# Altium footprint library AX7035_PCB_AD.PcbLib: 47 footprints (part 1 of 3)
Each footprint in its own frame and in the unit in brackets; x right, y up, seen from the top. Pads: shape width x height; smd on the part's side, far side on the other; paste and mask are expansions set on the pad; w line width, h text height; cw(c..) or ccw(c..) is an arc to the next point about the centre after c.
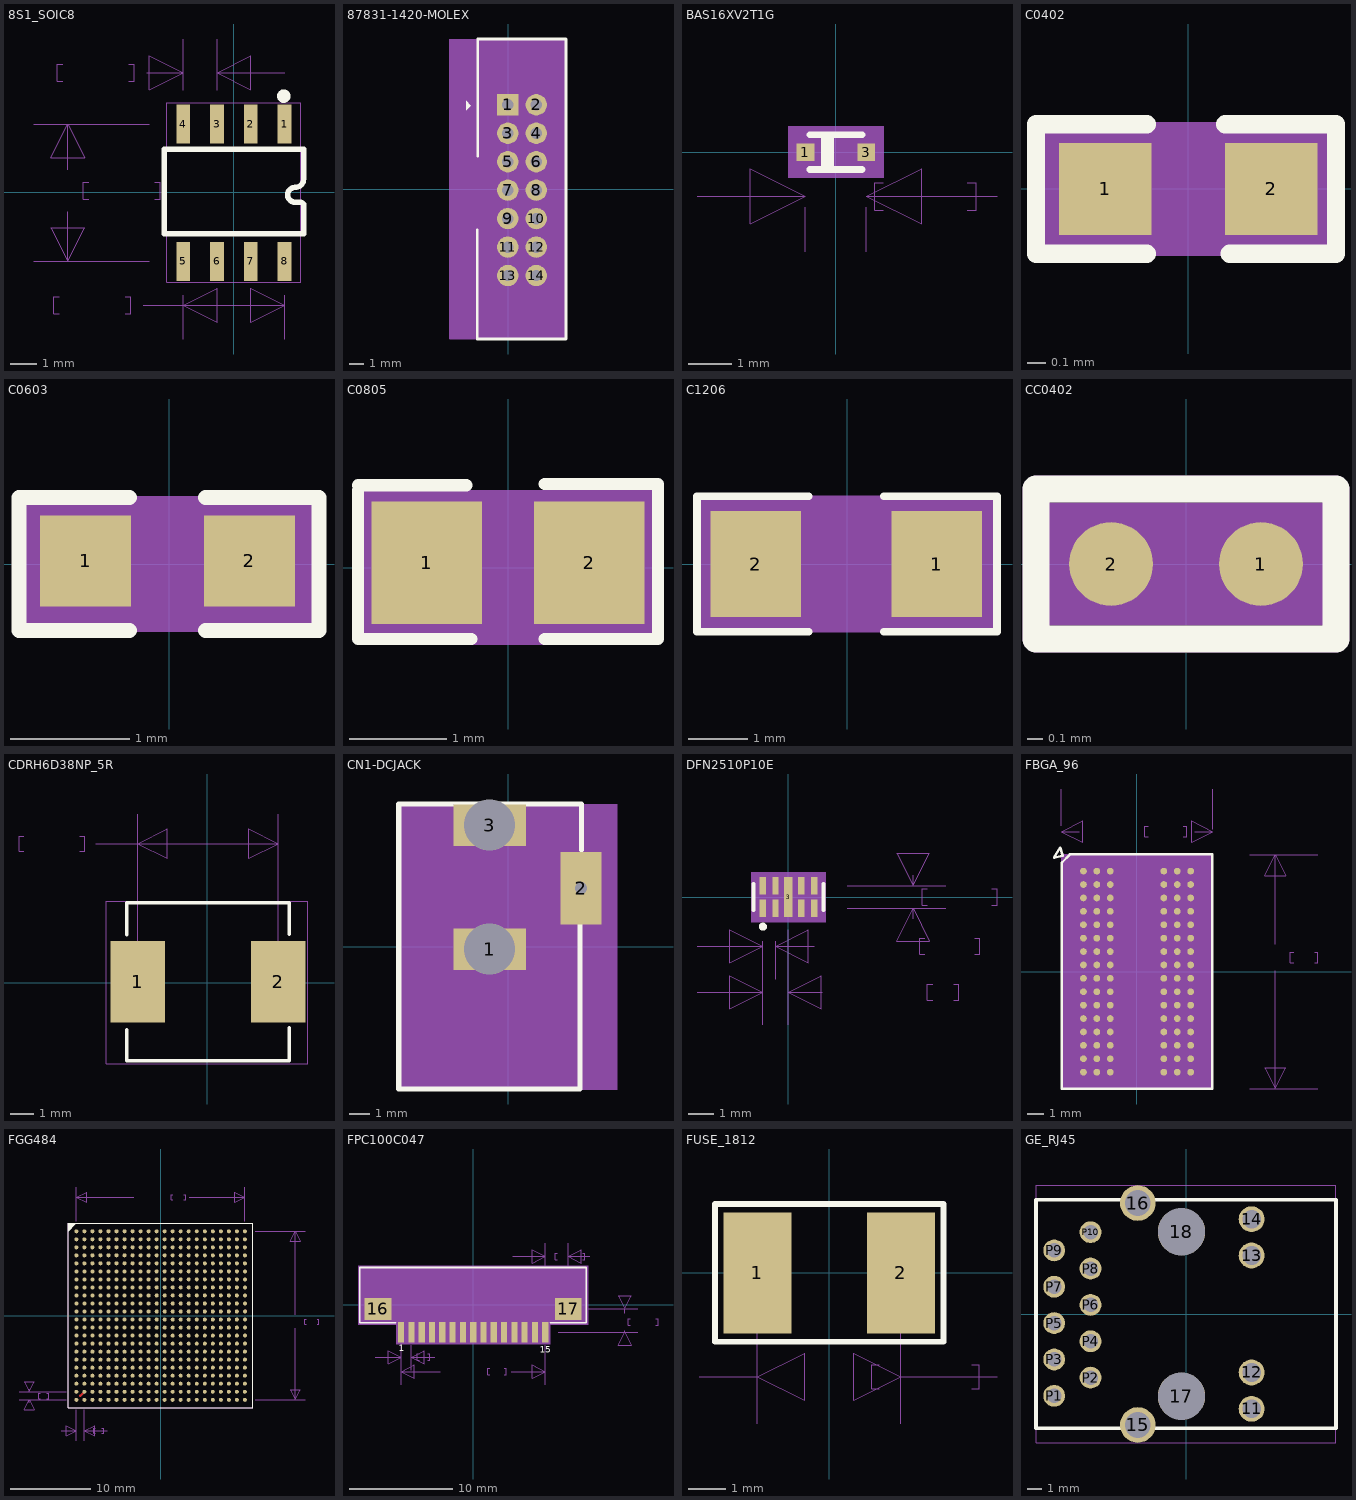
[diagram p0: the footprints below, top view; thin cyan lines are the x and y axes]

## 8S1_SOIC8 [mil] "8S1_SOIC8"
pads (8):
  rect 20.4x57.4 smd: 1(75.29,100.96) 2(25.29,100.96) 3(-24.71,100.96) 4(-74.71,100.96) 5(-74.71,-102.18) 6(-24.71,-102.18) 7(25.29,-102.18) 8(75.29,-102.18)
Top Overlay:
  circle w10: c73.99,142.37 r5.02
  lines w8: -102.69,-61.31 -102.69,63.57 103.36,63.57 103.36,19.86 cw(c90.88,19.86) 90.88,7.38 ccw(c90.88,-3.67) 90.88,-14.72 98.56,-14.72 cw(c98.56,-20) 103.84,-20 103.84,-25.77 103.84,-61.31 -102.69,-61.31
  text ".Designator" at 132.66,60 h25
Mechanical 8:
  text "1" at 75.29,110.96 h25
  text "2" at 25.29,110.96 h25
  text "3" at -24.71,110.96 h25
  text "4" at -74.71,110.96 h25
  text "6" at -24.71,-92.18 h25
  text "5" at -74.71,-92.18 h25
  text "7" at 25.29,-92.18 h25
  text "8" at 75.29,-92.18 h25
Mechanical 9:
  lines w1: -295.47,-102.18 -124.71,-102.18 ; -295.47,100.96 -124.71,100.96 ; -258.25,-179.33 -266.25,-179.33 -266.25,-154.33 -258.25,-154.33 ; -253.2,164.37 -261.2,164.37 -261.2,189.37 -253.2,189.37 ; -245.47,-28.78 -245.47,-102.18 ; -245.47,33.72 -245.47,100.96 ; -214.47,-10.03 -222.47,-10.03 -222.47,14.97 -214.47,14.97 ; -160.25,-179.33 -152.25,-179.33 -152.25,-154.33 -160.25,-154.33 ; -155.2,164.37 -147.2,164.37 -147.2,189.37 -155.2,189.37 ; -133.5,-166.83 -74.71,-166.83 ; -128.45,176.87 -74.71,176.87 ; -116.47,-10.03 -108.47,-10.03 -108.47,14.97 -116.47,14.97 ; -74.71,-216.83 -74.71,-152.18 ; -74.71,150.96 -74.71,226.87 ; -24.71,150.96 -24.71,226.87 ; 75.29,-216.83 75.29,-152.18 ; 75.29,176.87 -24.71,176.87 ; -245.47,-102.18 -220.47,-52.18 -270.47,-52.18 -245.47,-102.18 ; -245.47,100.96 -270.47,50.96 -220.47,50.96 -245.47,100.96 ; -74.71,-166.83 75.29,-166.83 ; -74.71,-166.83 -24.71,-191.83 -24.71,-141.83 -74.71,-166.83 ; -74.71,176.87 -124.71,201.87 -124.71,151.87 -74.71,176.87 ; -24.71,176.87 25.29,151.87 25.29,201.87 -24.71,176.87 ; 75.29,-166.83 25.29,-141.83 25.29,-191.83 75.29,-166.83
  text "5.16" at -206.47,-10.03 h25
  text "203.14" at -382.47,-10.03 h25
  text "3.81" at -250.25,-179.33 h25
  text "150.00" at -426.25,-179.33 h25
  text "1.27" at -245.2,164.37 h25
  text "50.00" at -399.2,164.37 h25
Mechanical 12:
  lines w1: -99.42,-132.79 99.41,-132.79 99.41,132.8 -99.42,132.8 -99.42,-132.79

## 87831-1420-MOLEX [mil] "87831-1420-MOLEX"
pads (14):
  rect 59.06x59.06 hole 31.5: 1(-0.5,233)
  round 59.06 hole 31.5: 2(78.24,233) 3(-0.5,154.26) 4(78.24,154.26) 5(-0.5,75.52) 6(78.24,75.52) 7(-0.5,-3.22) 8(78.24,-3.22) 9(-0.5,-81.96) 10(78.24,-81.96) 11(-0.5,-160.7) 12(78.24,-160.7) 13(-0.5,-239.44) 14(78.24,-239.44)
Top Overlay:
  pour cut-out: -115.5,244 -115.5,218 -102.5,231
  lines w7: -84.5,-113 -84.5,-415 160.5,-415 160.5,415 -83.5,415 -83.5,91
  text ".Designator" at -133.06,-346.11 h25
Mechanical 8:
  text "10" at 78.24,-61.96 h25
  text "4" at 78.24,164.26 h25
  text "8" at 78.24,6.78 h25
  text "6" at 78.24,85.52 h25
  text "2" at 78.24,243 h25
  text "1" at -0.5,243 h25
  text "13" at -0.5,-219.44 h25
  text "3" at -0.5,164.26 h25
  text "5" at -0.5,85.52 h25
  text "7" at -0.5,6.78 h25
  text "9" at -0.5,-71.96 h25
  text "11" at -0.5,-140.7 h25
  text "14" at 78.24,-219.44 h25
  text "12" at 78.24,-140.7 h25
Mechanical 12:
  region: -160.5,-415 160.5,-415 160.5,415 -160.5,415
Mechanical 13:
  lines w1: -160.5,-415 160.5,-415 160.5,415 -160.5,415 -160.5,-415
3D body: height 150, standoff 0, extent -160.5,-415 160.5,415

## BAS16XV2T1G [mil] "BAS16XV2T1G"
pads (2):
  rect 16x16 smd: 1(-27.56,0) 3(27.56,0)
Top Overlay:
  lines w6: -23.62,-15.75 23.62,-15.75 ; -23.62,15.75 23.62,15.75 ; -10.56,-15.75 -10.56,15.75 ; -4.56,-15.75 -4.56,15.75
Mechanical 8:
  text "3" at 17.56,0 h25
  text "1" at -37.56,0 h25
Mechanical 9:
  lines w1: -125.75,-40 -27.56,-40 ; -27.56,-90 -27.56,-50 ; 27.56,-90 27.56,-50 ; 43,-52.5 35,-52.5 35,-27.5 43,-27.5 ; 119,-52.5 127,-52.5 127,-27.5 119,-27.5 ; 145.75,-40 27.56,-40 ; -27.56,-40 -77.56,-15 -77.56,-65 -27.56,-40 ; 27.56,-40 77.56,-65 77.56,-15 27.56,-40
  text "55.12" at -105,-52.5 h25
  text "1.4" at 51,-52.5 h25
Mechanical 12:
  region: -43.06,-23.25 43.06,-23.25 43.06,23.25 -43.06,23.25
Mechanical 13:
  text ".Designator" at 0,0 h25
3D body: height 150, standoff 0, extent -43.06,-23.25 43.06,23.25

## C0402 [mil] "C0402"
pads (2):
  rect 20x20 smd: 1(-18,0) 2(18,0)
Top Overlay:
  lines w4: -9,-14 -33,-14 -33,14 -9,14 ; 8,14 32,14 32,-14 9,-14
  text ".Designator" at 37.5,-38.67 h25
Mechanical 8:
  text "2" at 18,-10 h25
  text "1" at -18,-10 h25
Mechanical 12:
  region: -32,-14 32,-14 32,14 -32,14
Mechanical 13:
  lines w1: -32,-14 -32,14 32,14 32,-14 -32,-14
3D body: height 150, standoff 0, extent -32,-14 32,14

## C0603 [mil] "C0603"
pads (2):
  rect 30x30 smd: 1(-27.5,1) 2(26.5,1)
Top Overlay:
  lines w5: -13,-22 -49.5,-22 -49.5,22 -13,22 ; 12,-22 49.5,-22 49.5,22 12,22
  text ".Designator" at 64.5,-7.33 h25
Mechanical 8:
  text "2" at 16.5,1 h25
  text "1" at -37.5,1 h25
Mechanical 12:
  region: -49.5,22 -49.5,-22 49.5,-22 49.5,22
Mechanical 13:
  lines w1: -49.5,-22 49.5,-22 49.5,22 -49.5,22 -49.5,-22
3D body: height 150, standoff 0, extent -49.5,-22 49.5,22

## C0805 [mil] "C0805"
pads (2):
  rect 45x50 smd: 1(-33,2) 2(33,2)
Top Overlay:
  lines w5: -61,-29 -15,-29 ; -61,-28.5 -61,31.5 ; -61,33.5 -17,33.5 ; 15,-29 61,-29 ; 15,34 61,34 61,-28
  text ".Designator" at 42.3,-46.78 h25
Mechanical 8:
  text "2" at 43,2 h25
  text "1" at -23,2 h25
Mechanical 12:
  region: -61,-31 61,-31 61,31 -61,31
Mechanical 13:
  lines w1: -61,-31 -61,31 61,31 61,-31 -61,-31
3D body: height 150, standoff 0, extent -61,-31 61,31

## C1206 [mil] "C1206"
pads (2):
  rect 60x70 smd: 1(59.5,0) 2(-60.5,0)
Top Overlay:
  lines w5: -25.5,-45 -99.5,-45 -99.5,45 -25.5,45 ; 24.5,-45 99.5,-45 99.5,45 24.5,45
  text ".Designator" at -117,18.33 h25
Mechanical 8:
  text "2" at -70.5,0 h25
  text "1" at 49.5,0 h25
Mechanical 10:
  region: 99.5,45 99.5,-45 -99.5,-45 -99.5,45
Mechanical 11:
  lines w1: -99.5,-45 -99.5,45 99.5,45 99.5,-45 -99.5,-45
3D body: height 150, standoff 0, extent -99.5,-45 99.5,45

## CC0402 [mil] "CC0402"
pads (2):
  round 22 smd: 1(19.68,0) 2(-19.68,0)
Top Overlay:
  lines w7: -39.37,-19.68 -39.37,19.68 39.37,19.68 39.37,-19.68 -39.37,-19.68
Mechanical 8:
  text "2" at 0.32,0 h25
  text "1" at 39.68,0 h25
Mechanical 10:
  region: -36,-16 36,-16 36,16 35,16 -36,16
Mechanical 11:
  lines w7: -39.37,-19.68 -39.37,19.68 39.37,19.68 39.37,-19.68 -39.37,-19.68
  text ".Designator" at 0.68,4 h25
3D body: height 150, standoff 0, extent -36,-16 36,16

## CDRH6D38NP_5R [mil] "CDRH6D38NP_5R"
pads (2):
  rect 92.5x137.8 smd: 1(-117.59,1.5) 2(120.59,1.5)
Top Overlay:
  lines w6: -136.3,-79.5 -136.3,-132.36 139.3,-132.36 139.3,-76.5 ; -136.3,81.5 -136.3,135.36 139.3,135.36 139.3,82.5
  text ".Designator" at -30.1,159.57 h25
Mechanical 8:
  text "1" at -127.59,1.5 h25
  text "2" at 110.59,1.5 h25
Mechanical 9:
  lines w1: -310.5,223 -318.5,223 -318.5,248 -310.5,248 ; -215.5,223 -207.5,223 -207.5,248 -215.5,248 ; -188.75,235.5 -117.59,235.5 ; -117.59,51.5 -117.59,285.5 ; 120.59,51.5 120.59,285.5 ; -117.59,235.5 120.59,235.5 ; -117.59,235.5 -67.59,210.5 -67.59,260.5 -117.59,235.5 ; 120.59,235.5 70.59,260.5 70.59,210.5 120.59,235.5
  text "6.05" at -302.5,223 h25
  text "238.19" at -475.5,223 h25
Mechanical 12:
  lines w1: -170.5,-137.5 -170.5,137.5 170.5,137.5 170.5,-137.5 -170.5,-137.5

## CN1-DCJACK [mil] "CN1-DCJACK"
pads (3):
  rect 140x80 hole 98.43: 1(-35.59,-5) 3(-35.59,235.16)
  rect 80x140 hole 23.62: 2(141.58,113)
Top Overlay:
  lines w10: 139.41,43 139.41,-276 -211.59,-276 -211.59,276 142.41,276 142.41,187
Mechanical 8:
  text "1" at -35.59,-15 h25
  text "2" at 141.58,103 h25
  text "3" at -35.59,225.16 h25
Mechanical 12:
  region: -211.59,-276 211.58,-276 211.58,276 -211.59,276
Mechanical 13:
  lines w1: -211.59,-276 -211.59,276 211.58,276 211.58,-276 -211.59,-276
  text ".Designator" at -52.59,108 h25
3D body: height 150, standoff 0, extent -211.59,-276 211.58,276

## DFN2510P10E [mm] "DFN2510P10E"
pads (9):
  rect 0.25x0.675 smd: 1(-1,-0.437) 2(-0.5,-0.437) 4(0.5,-0.437) 5(1,-0.437) 6(1,0.437) 7(0.5,0.437) 9(-0.5,0.437) 10(-1,0.437)
  rect 0.33x1.549 smd: 3(0,0)
Top Overlay:
  circle w0.152: c-0.991,-1.143 r0.08
  lines w0.152: -1.356,-0.5 -1.356,0.5 ; 1.356,-0.5 1.356,0.5
  text ".Designator" at -0.508,-1.964 h0.64
Mechanical 8:
  text "1" at -1,-0.183 h0.64
  text "10" at -1,0.945 h0.64
  text "2" at -0.5,-0.183 h0.64
  text "9" at -0.5,0.691 h0.64
  text "4" at 0.5,-0.183 h0.64
  text "7" at 0.5,0.691 h0.64
  text "5" at 1,-0.183 h0.64
  text "6" at 1,0.691 h0.64
  text "3" at 0,0.254 h0.64
Mechanical 9:
  lines w0.025: -3.54,-3.683 -1,-3.683 ; -3.54,-1.905 -1,-1.905 ; -1,-4.953 -1,-1.707 -1,-3.175 ; -0.5,-3.175 -0.5,-1.707 ; 0,-4.953 0,-1.27 ; 0.997,-1.905 -0.5,-1.905 ; 1.302,-3.683 0,-3.683 ; 2.27,-0.437 6.096,-0.437 ; 2.27,0.437 6.096,0.437 ; 4.826,-0.845 4.826,-0.437 ; 4.826,0.845 4.826,0.437 ; 5.283,-2.222 5.08,-2.222 5.08,-1.587 5.283,-1.587 ; 5.385,-0.318 5.182,-0.318 5.182,0.318 5.385,0.318 ; 5.588,-4 5.385,-4 5.385,-3.365 5.588,-3.365 ; 6.401,-4 6.604,-4 6.604,-3.365 6.401,-3.365 ; 7.214,-2.222 7.417,-2.222 7.417,-1.587 7.214,-1.587 ; 7.874,-0.318 8.077,-0.318 8.077,0.318 7.874,0.318 ; -1,-3.683 -2.27,-4.318 -2.27,-3.048 -1,-3.683 ; -1,-1.905 -2.27,-2.54 -2.27,-1.27 -1,-1.905 ; -0.5,-1.905 0.77,-1.27 0.77,-2.54 -0.5,-1.905 ; 0,-3.683 1.27,-3.048 1.27,-4.318 0,-3.683 ; 4.826,-0.437 5.461,-1.707 4.191,-1.707 4.826,-0.437 ; 4.826,0.437 4.191,1.707 5.461,1.707 4.826,0.437
  text "19.68" at 1.524,-2.222 h0.64
  text "0.5" at 5.486,-2.222 h0.64
  text "39.37" at 1.829,-4 h0.64
  text "1" at 5.791,-4 h0.64
  text "34.44" at 1.626,-0.318 h0.64
  text "0.87" at 5.588,-0.318 h0.64
Mechanical 12:
  region: -1.44,-0.965 1.44,-0.965 1.44,0.965 -1.44,0.965
3D body: height 3.81, standoff 0, extent -1.44,-0.965 1.44,0.965

## FBGA_96 [mil] "FBGA_96"
pads (96):
  round 15.75 smd: A1(-125.5,236.22) A2(-94,236.22) A3(-62.51,236.22) A7(63.48,236.22) A8(94.97,236.22) A9(126.47,236.22) B1(-125.5,204.72) B2(-94,204.72) B3(-62.51,204.72) B7(63.48,204.72) B8(94.97,204.72) B9(126.47,204.72) C1(-125.5,173.23) C2(-94,173.23) C3(-62.51,173.23) C7(63.48,173.23) C8(94.97,173.23) C9(126.47,173.23) D1(-125.5,141.73) D2(-94,141.73) D3(-62.51,141.73) D7(63.48,141.73) D8(94.97,141.73) D9(126.47,141.73) E1(-125.5,110.24) E2(-94,110.24) E3(-62.51,110.24) E7(63.48,110.24) E8(94.97,110.24) E9(126.47,110.24) F1(-125.5,78.74) F2(-94,78.74) F3(-62.51,78.74) F7(63.48,78.74) F8(94.97,78.74) F9(126.47,78.74) G1(-125.5,47.24) G2(-94,47.24) G3(-62.51,47.24) G7(63.48,47.24) G8(94.97,47.24) G9(126.47,47.24) H1(-125.5,15.75) H2(-94,15.75) H3(-62.51,15.75) H7(63.48,15.75) H8(94.97,15.75) H9(126.47,15.75) J1(-125.5,-15.75) J2(-94,-15.75) J3(-62.51,-15.75) J7(63.48,-15.75) J8(94.97,-15.75) J9(126.47,-15.75) K1(-125.5,-47.24) K2(-94,-47.24) K3(-62.51,-47.24) K7(63.48,-47.24) K8(94.97,-47.24) K9(126.47,-47.24) L1(-125.5,-78.74) L2(-94,-78.74) L3(-62.51,-78.74) L7(63.48,-78.74) L8(94.97,-78.74) L9(126.47,-78.74) M1(-125.5,-110.24) M2(-94,-110.24) M3(-62.51,-110.24) M7(63.48,-110.24) M8(94.97,-110.24) M9(126.47,-110.24) N1(-125.5,-141.73) N2(-94,-141.73) N3(-62.51,-141.73) N7(63.48,-141.73) N8(94.97,-141.73) N9(126.47,-141.73) P1(-125.5,-173.23) P2(-94,-173.23) P3(-62.51,-173.23) P7(63.48,-173.23) P8(94.97,-173.23) P9(126.47,-173.23) R1(-125.5,-204.72) R2(-94,-204.72) R3(-62.51,-204.72) R7(63.48,-204.72) R8(94.97,-204.72) R9(126.47,-204.72) T1(-125.5,-236.22) T2(-94,-236.22) T3(-62.51,-236.22) T7(63.48,-236.22) T8(94.97,-236.22) T9(126.47,-236.22)
Top Overlay:
  lines w5: -175.37,257.22 -158.43,274.15
  lines w6: -176.68,256.22 -176.68,-275.59 177.65,-275.59 177.65,275.59 -157.5,275.59 ; -194.5,268.22 -180.5,291.22 -174.5,272.22 -194.5,268.22
  text ".Designator" at 223.33,59.5 h25
Mechanical 8:
  text "G2" at -94,27.24 h25
  text "F8" at 94.97,58.74 h25
  text "A7" at 63.48,216.22 h25
  text "C3" at -62.51,153.23 h25
  text "F2" at -94,58.74 h25
  text "G3" at -62.51,27.24 h25
  text "H3" at -62.51,-4.25 h25
  text "T7" at 63.48,-256.22 h25
  text "L8" at 94.97,-98.74 h25
  text "D7" at 63.48,121.73 h25
  text "E3" at -62.51,90.24 h25
  text "F7" at 63.48,58.74 h25
  text "C2" at -94,153.23 h25
  text "E7" at 63.48,90.24 h25
  text "C7" at 63.48,153.23 h25
  text "M8" at 94.97,-130.24 h25
  text "H1" at -125.5,-4.25 h25
  text "D3" at -62.51,121.73 h25
  text "R9" at 126.47,-224.72 h25
  text "K8" at 94.97,-67.24 h25
  text "N9" at 126.47,-161.73 h25
  text "H9" at 126.47,-4.25 h25
  text "E9" at 126.47,90.24 h25
  text "D9" at 126.47,121.73 h25
  text "C9" at 126.47,153.23 h25
  text "G7" at 63.48,27.24 h25
  text "A8" at 94.97,216.22 h25
  text "R1" at -125.5,-224.72 h25
  text "K2" at -94,-67.24 h25
  text "N1" at -125.5,-161.73 h25
  text "F1" at -125.5,58.74 h25
  text "A1" at -125.5,216.22 h25
  text "C1" at -125.5,153.23 h25
  text "B2" at -94,184.72 h25
  text "D2" at -94,121.73 h25
  text "H2" at -94,-4.25 h25
  text "A2" at -94,216.22 h25
  text "H8" at 94.97,-4.25 h25
  text "C8" at 94.97,153.23 h25
  text "T2" at -94,-256.22 h25
  text "J7" at 63.48,-35.75 h25
  text "B8" at 94.97,184.72 h25
  text "K7" at 63.48,-67.24 h25
  text "A3" at -62.51,216.22 h25
  text "H7" at 63.48,-4.25 h25
  text "B7" at 63.48,184.72 h25
  text "F3" at -62.51,58.74 h25
  text "J1" at -125.5,-35.75 h25
  text "J9" at 126.47,-35.75 h25
  text "L1" at -125.5,-98.74 h25
  text "L9" at 126.47,-98.74 h25
  text "M7" at 63.48,-130.24 h25
  text "K1" at -125.5,-67.24 h25
  text "K3" at -62.51,-67.24 h25
  text "M2" at -94,-130.24 h25
  text "M3" at -62.51,-130.24 h25
  text "L3" at -62.51,-98.74 h25
  text "L2" at -94,-98.74 h25
  text "J3" at -62.51,-35.75 h25
  text "N7" at 63.48,-161.73 h25
  text "K9" at 126.47,-67.24 h25
  text "R3" at -62.51,-224.72 h25
  text "P7" at 63.48,-193.23 h25
  text "L7" at 63.48,-98.74 h25
  text "R2" at -94,-224.72 h25
  text "T3" at -62.51,-256.22 h25
  text "P3" at -62.51,-193.23 h25
  text "T8" at 94.97,-256.22 h25
  text "R7" at 63.48,-224.72 h25
  text "P2" at -94,-193.23 h25
  text "R8" at 94.97,-224.72 h25
  text "N2" at -94,-161.73 h25
  text "P8" at 94.97,-193.23 h25
  text "N3" at -62.51,-161.73 h25
  text "N8" at 94.97,-161.73 h25
  text "T9" at 126.47,-256.22 h25
  text "P9" at 126.47,-193.23 h25
  text "M9" at 126.47,-130.24 h25
  text "J8" at 94.97,-35.75 h25
  text "E8" at 94.97,90.24 h25
  text "F9" at 126.47,58.74 h25
  text "G9" at 126.47,27.24 h25
  text "G8" at 94.97,27.24 h25
  text "D8" at 94.97,121.73 h25
  text "B9" at 126.47,184.72 h25
  text "A9" at 126.47,216.22 h25
  text "B3" at -62.51,184.72 h25
  text "T1" at -125.5,-256.22 h25
  text "P1" at -125.5,-193.23 h25
  text "M1" at -125.5,-130.24 h25
  text "J2" at -94,-35.75 h25
  text "G1" at -125.5,27.24 h25
  text "E2" at -94,90.24 h25
  text "E1" at -125.5,90.24 h25
  text "D1" at -125.5,121.73 h25
  text "B1" at -125.5,184.72 h25
Mechanical 9:
  lines w1: -177.5,343.22 -177.5,429.22 ; -135.25,329.22 -177.5,329.22 ; 26.5,316.72 18.5,316.72 18.5,341.72 26.5,341.72 ; 109.5,316.72 117.5,316.72 117.5,341.72 109.5,341.72 ; 136.25,329.22 178.5,329.22 ; 178.5,334.22 178.5,429.22 ; 265.5,-275.78 425.5,-275.78 ; 265.5,275.22 425.5,275.22 ; 325.5,1.97 325.5,-275.78 ; 325.5,64.47 325.5,275.22 ; 368.5,20.72 360.5,20.72 360.5,45.72 368.5,45.72 ; 417.5,20.72 425.5,20.72 425.5,45.72 417.5,45.72 ; -177.5,329.22 -127.5,354.22 -127.5,304.22 -177.5,329.22 ; 178.5,329.22 128.5,304.22 128.5,354.22 178.5,329.22 ; 325.5,-275.78 300.5,-225.78 350.5,-225.78 325.5,-275.78 ; 325.5,275.22 350.5,225.22 300.5,225.22 325.5,275.22
  text "356.00" at -116.5,316.72 h25
  text "9.04" at 34.5,316.72 h25
  text "551.00" at 225.5,20.72 h25
  text "14" at 376.5,20.72 h25
Mechanical 12:
  region: -177.5,275.59 -177.5,-275.59 177.5,-275.59 177.5,275.59
3D body: height 150, standoff 0, extent -177.5,-275.59 177.5,275.59

## FGG484 [mil] "FGG484"
pads (484):
  round 19.68 smd: A1(-413.39,413.39) A2(-374.02,413.39) A3(-334.65,413.39) A4(-295.28,413.39) A5(-255.91,413.39) A6(-216.54,413.39) A7(-177.17,413.39) A8(-137.8,413.39) A9(-98.43,413.39) A10(-59.06,413.39) A11(-19.69,413.39) A12(19.69,413.39) A13(59.06,413.39) A14(98.43,413.39) A15(137.8,413.39) A16(177.17,413.39) A17(216.54,413.39) A18(255.91,413.39) A19(295.28,413.39) A20(334.65,413.39) A21(374.02,413.39) A22(413.39,413.39) AA1(-413.39,-374.02) AA2(-374.02,-374.02) AA3(-334.65,-374.02) AA4(-295.28,-374.02) AA5(-255.91,-374.02) AA6(-216.54,-374.02) AA7(-177.17,-374.02) AA8(-137.8,-374.02) AA9(-98.43,-374.02) AA10(-59.06,-374.02) AA11(-19.69,-374.02) AA12(19.69,-374.02) AA13(59.06,-374.02) AA14(98.43,-374.02) AA15(137.8,-374.02) AA16(177.17,-374.02) AA17(216.54,-374.02) AA18(255.91,-374.02) AA19(295.28,-374.02) AA20(334.65,-374.02) AA21(374.02,-374.02) AA22(413.39,-374.02) AB1(-413.39,-413.39) AB2(-374.02,-413.39) AB3(-334.65,-413.39) AB4(-295.28,-413.39) AB5(-255.91,-413.39) AB6(-216.54,-413.39) AB7(-177.17,-413.39) AB8(-137.8,-413.39) AB9(-98.43,-413.39) AB10(-59.06,-413.39) AB11(-19.69,-413.39) AB12(19.69,-413.39) AB13(59.06,-413.39) AB14(98.43,-413.39) AB15(137.8,-413.39) AB16(177.17,-413.39) AB17(216.54,-413.39) AB18(255.91,-413.39) AB19(295.28,-413.39) AB20(334.65,-413.39) AB21(374.02,-413.39) AB22(413.39,-413.39) B1(-413.39,374.02) B2(-374.02,374.02) B3(-334.65,374.02) B4(-295.28,374.02) B5(-255.91,374.02) B6(-216.54,374.02) B7(-177.17,374.02) B8(-137.8,374.02) B9(-98.43,374.02) B10(-59.06,374.02) B11(-19.69,374.02) B12(19.69,374.02) B13(59.06,374.02) B14(98.43,374.02) B15(137.8,374.02) B16(177.17,374.02) B17(216.54,374.02) B18(255.91,374.02) B19(295.28,374.02) B20(334.65,374.02) B21(374.02,374.02) B22(413.39,374.02) C1(-413.39,334.65) C2(-374.02,334.65) C3(-334.65,334.65) C4(-295.28,334.65) C5(-255.91,334.65) C6(-216.54,334.65) C7(-177.17,334.65) C8(-137.8,334.65) C9(-98.43,334.65) C10(-59.06,334.65) C11(-19.69,334.65) C12(19.69,334.65) C13(59.06,334.65) C14(98.43,334.65) C15(137.8,334.65) C16(177.17,334.65) C17(216.54,334.65) C18(255.91,334.65) C19(295.28,334.65) C20(334.65,334.65) C21(374.02,334.65) C22(413.39,334.65) D1(-413.39,295.28) D2(-374.02,295.28) D3(-334.65,295.28) D4(-295.28,295.28) D5(-255.91,295.28) D6(-216.54,295.28) D7(-177.17,295.28) D8(-137.8,295.28) D9(-98.43,295.28) D10(-59.06,295.28) D11(-19.69,295.28) D12(19.69,295.28) D13(59.06,295.28) D14(98.43,295.28) D15(137.8,295.28) D16(177.17,295.28) D17(216.54,295.28) D18(255.91,295.28) D19(295.28,295.28) D20(334.65,295.28) D21(374.02,295.28) D22(413.39,295.28) E1(-413.39,255.91) E2(-374.02,255.91) E3(-334.65,255.91) E4(-295.28,255.91) E5(-255.91,255.91) E6(-216.54,255.91) E7(-177.17,255.91) E8(-137.8,255.91) E9(-98.43,255.91) E10(-59.06,255.91) E11(-19.69,255.91) E12(19.69,255.91) E13(59.06,255.91) E14(98.43,255.91) E15(137.8,255.91) E16(177.17,255.91) E17(216.54,255.91) E18(255.91,255.91) E19(295.28,255.91) E20(334.65,255.91) E21(374.02,255.91) E22(413.39,255.91) F1(-413.39,216.54) F2(-374.02,216.54) F3(-334.65,216.54) F4(-295.28,216.54) F5(-255.91,216.54) F6(-216.54,216.54) F7(-177.17,216.54) F8(-137.8,216.54) F9(-98.43,216.54) F10(-59.06,216.54) F11(-19.69,216.54) F12(19.69,216.54) F13(59.06,216.54) F14(98.43,216.54) F15(137.8,216.54) F16(177.17,216.54) F17(216.54,216.54) F18(255.91,216.54) F19(295.28,216.54) F20(334.65,216.54) F21(374.02,216.54) F22(413.39,216.54) G1(-413.39,177.17) G2(-374.02,177.17) G3(-334.65,177.17) G4(-295.28,177.17) G5(-255.91,177.17) G6(-216.54,177.17) G7(-177.17,177.17) G8(-137.8,177.17) G9(-98.43,177.17) G10(-59.06,177.17) G11(-19.69,177.17) G12(19.69,177.17) G13(59.06,177.17) G14(98.43,177.17) G15(137.8,177.17) G16(177.17,177.17) G17(216.54,177.17) G18(255.91,177.17) G19(295.28,177.17) G20(334.65,177.17) G21(374.02,177.17) G22(413.39,177.17) H1(-413.39,137.8) H2(-374.02,137.8) H3(-334.65,137.8) H4(-295.28,137.8) H5(-255.91,137.8) H6(-216.54,137.8) H7(-177.17,137.8) H8(-137.8,137.8) H9(-98.43,137.8) H10(-59.06,137.8) H11(-19.69,137.8) H12(19.69,137.8) H13(59.06,137.8) H14(98.43,137.8) H15(137.8,137.8) H16(177.17,137.8) H17(216.54,137.8) H18(255.91,137.8) H19(295.28,137.8) H20(334.65,137.8) H21(374.02,137.8) H22(413.39,137.8) J1(-413.39,98.43) J2(-374.02,98.43) J3(-334.65,98.43) J4(-295.28,98.43) J5(-255.91,98.43) J6(-216.54,98.43) J7(-177.17,98.43) J8(-137.8,98.43) J9(-98.43,98.43) J10(-59.06,98.43) J11(-19.69,98.43) J12(19.69,98.43) J13(59.06,98.43) J14(98.43,98.43) J15(137.8,98.43) J16(177.17,98.43) J17(216.54,98.43) J18(255.91,98.43) J19(295.28,98.43) J20(334.65,98.43) J21(374.02,98.43) J22(413.39,98.43) K1(-413.39,59.06) K2(-374.02,59.06) K3(-334.65,59.06) K4(-295.28,59.06) K5(-255.91,59.06) K6(-216.54,59.06) K7(-177.17,59.06) K8(-137.8,59.06) K9(-98.43,59.06) K10(-59.06,59.06) K11(-19.69,59.06) K12(19.69,59.06) K13(59.06,59.06) K14(98.43,59.06) K15(137.8,59.06) K16(177.17,59.06) K17(216.54,59.06) K18(255.91,59.06) K19(295.28,59.06) K20(334.65,59.06) K21(374.02,59.06) K22(413.39,59.06) L1(-413.39,19.69) L2(-374.02,19.69) L3(-334.65,19.69) L4(-295.28,19.69) L5(-255.91,19.69) L6(-216.54,19.69) L7(-177.17,19.69) L8(-137.8,19.69) L9(-98.43,19.69) L10(-59.06,19.69) L11(-19.69,19.69) L12(19.69,19.69) L13(59.06,19.69) L14(98.43,19.69) L15(137.8,19.69) L16(177.17,19.69) L17(216.54,19.69) L18(255.91,19.69) L19(295.28,19.69) L20(334.65,19.69) L21(374.02,19.69) L22(413.39,19.69) M1(-413.39,-19.69) M2(-374.02,-19.69) M3(-334.65,-19.69) M4(-295.28,-19.69) M5(-255.91,-19.69) M6(-216.54,-19.69) M7(-177.17,-19.69) M8(-137.8,-19.69) M9(-98.43,-19.69) M10(-59.06,-19.69) M11(-19.69,-19.69) M12(19.69,-19.69) M13(59.06,-19.69) M14(98.43,-19.69) M15(137.8,-19.69) M16(177.17,-19.69) M17(216.54,-19.69) M18(255.91,-19.69) M19(295.28,-19.69) M20(334.65,-19.69) M21(374.02,-19.69) M22(413.39,-19.69) N1(-413.39,-59.06) N2(-374.02,-59.06) N3(-334.65,-59.06) N4(-295.28,-59.06) N5(-255.91,-59.06) N6(-216.54,-59.06) N7(-177.17,-59.06) N8(-137.8,-59.06) N9(-98.43,-59.06) N10(-59.06,-59.06) N11(-19.69,-59.06) N12(19.69,-59.06) N13(59.06,-59.06) N14(98.43,-59.06) N15(137.8,-59.06) N16(177.17,-59.06) N17(216.54,-59.06) N18(255.91,-59.06) N19(295.28,-59.06) N20(334.65,-59.06) N21(374.02,-59.06) N22(413.39,-59.06) P1(-413.39,-98.43) P2(-374.02,-98.43) P3(-334.65,-98.43) P4(-295.28,-98.43) P5(-255.91,-98.43) P6(-216.54,-98.43) P7(-177.17,-98.43) P8(-137.8,-98.43) P9(-98.43,-98.43) P10(-59.06,-98.43) P11(-19.69,-98.43) P12(19.69,-98.43) P13(59.06,-98.43) P14(98.43,-98.43) P15(137.8,-98.43) P16(177.17,-98.43) P17(216.54,-98.43) P18(255.91,-98.43) P19(295.28,-98.43) P20(334.65,-98.43) P21(374.02,-98.43) P22(413.39,-98.43) R1(-413.39,-137.8) R2(-374.02,-137.8) R3(-334.65,-137.8) R4(-295.28,-137.8) R5(-255.91,-137.8) R6(-216.54,-137.8) R7(-177.17,-137.8) R8(-137.8,-137.8) R9(-98.43,-137.8) R10(-59.06,-137.8) R11(-19.69,-137.8) R12(19.69,-137.8) R13(59.06,-137.8) R14(98.43,-137.8) R15(137.8,-137.8) R16(177.17,-137.8) R17(216.54,-137.8) R18(255.91,-137.8) R19(295.28,-137.8) R20(334.65,-137.8) R21(374.02,-137.8) R22(413.39,-137.8) T1(-413.39,-177.17) T2(-374.02,-177.17) T3(-334.65,-177.17) T4(-295.28,-177.17) T5(-255.91,-177.17) T6(-216.54,-177.17) T7(-177.17,-177.17) T8(-137.8,-177.17) T9(-98.43,-177.17) T10(-59.06,-177.17) T11(-19.69,-177.17) T12(19.69,-177.17) T13(59.06,-177.17) T14(98.43,-177.17) T15(137.8,-177.17) T16(177.17,-177.17) T17(216.54,-177.17) T18(255.91,-177.17) T19(295.28,-177.17) T20(334.65,-177.17) T21(374.02,-177.17) T22(413.39,-177.17) U1(-413.39,-216.54) U2(-374.02,-216.54) U3(-334.65,-216.54) U4(-295.28,-216.54) U5(-255.91,-216.54) U6(-216.54,-216.54) U7(-177.17,-216.54) U8(-137.8,-216.54) U9(-98.43,-216.54) U10(-59.06,-216.54) U11(-19.69,-216.54) U12(19.69,-216.54) U13(59.06,-216.54) U14(98.43,-216.54) U15(137.8,-216.54) U16(177.17,-216.54) U17(216.54,-216.54) U18(255.91,-216.54) U19(295.28,-216.54) U20(334.65,-216.54) U21(374.02,-216.54) U22(413.39,-216.54) V1(-413.39,-255.91) V2(-374.02,-255.91) V3(-334.65,-255.91) V4(-295.28,-255.91) V5(-255.91,-255.91) V6(-216.54,-255.91) V7(-177.17,-255.91) V8(-137.8,-255.91) V9(-98.43,-255.91) V10(-59.06,-255.91) V11(-19.69,-255.91) V12(19.69,-255.91) V13(59.06,-255.91) V14(98.43,-255.91) V15(137.8,-255.91) V16(177.17,-255.91) V17(216.54,-255.91) V18(255.91,-255.91) V19(295.28,-255.91) V20(334.65,-255.91) V21(374.02,-255.91) V22(413.39,-255.91) W1(-413.39,-295.28) W2(-374.02,-295.28) W3(-334.65,-295.28) W4(-295.28,-295.28) W5(-255.91,-295.28) W6(-216.54,-295.28) W7(-177.17,-295.28) W8(-137.8,-295.28) W9(-98.43,-295.28) W10(-59.06,-295.28) W11(-19.69,-295.28) W12(19.69,-295.28) W13(59.06,-295.28) W14(98.43,-295.28) W15(137.8,-295.28) W16(177.17,-295.28) W17(216.54,-295.28) W18(255.91,-295.28) W19(295.28,-295.28) W20(334.65,-295.28) W21(374.02,-295.28) W22(413.39,-295.28) Y1(-413.39,-334.65) Y2(-374.02,-334.65) Y3(-334.65,-334.65) Y4(-295.28,-334.65) Y5(-255.91,-334.65) Y6(-216.54,-334.65) Y7(-177.17,-334.65) Y8(-137.8,-334.65) Y9(-98.43,-334.65) Y10(-59.06,-334.65) Y11(-19.69,-334.65) Y12(19.69,-334.65) Y13(59.06,-334.65) Y14(98.43,-334.65) Y15(137.8,-334.65) Y16(177.17,-334.65) Y17(216.54,-334.65) Y18(255.91,-334.65) Y19(295.28,-334.65) Y20(334.65,-334.65) Y21(374.02,-334.65) Y22(413.39,-334.65)
Top Layer:
  lines w12: -393.71,-393.7 -374.02,-374.02 ; 413.39,19.69 416.7,23 ; 59.06,98.43 59.06,98.44 ; 59.06,295.28 59.06,295.29 ; 216.54,216.54 216.54,216.55
Top Overlay:
  lines w6: -421,451 -452,416 -419,450 -452,418 -426,452 -452,426 -433,452 -451,429 -452,436 ; -452,436 -445,452 -452,443 -438,451 -452,436 ; -452.76,-452.76 452.76,-452.76 452.76,452.76 -452.76,452.76 -452.76,-452.76
  text ".Designator" at 29.5,-495.67 h25
Mechanical 8:
  text "F4" at -275.28,216.54 h25
  text "N20" at 364.65,-59.06 h25
  text "M18" at 285.91,-19.69 h25
  text "L3" at -314.65,19.69 h25
  text "E3" at -314.65,255.91 h25
  text "J2" at -354.02,98.43 h25
  text "C2" at -354.02,334.65 h25
  text "E2" at -354.02,255.91 h25
  text "D2" at -354.02,295.28 h25
  text "B2" at -354.02,374.02 h25
  text "H13" at 89.06,137.8 h25
  text "H14" at 128.43,137.8 h25
  text "M17" at 246.54,-19.69 h25
  text "M3" at -314.65,-19.69 h25
  text "K6" at -196.54,59.06 h25
  text "G4" at -275.28,177.17 h25
  text "M16" at 207.17,-19.69 h25
  text "M22" at 443.39,-19.69 h25
  text "N22" at 443.39,-59.06 h25
  text "M2" at -354.02,-19.69 h25
  text "H5" at -235.91,137.8 h25
  text "J5" at -235.91,98.43 h25
  text "K3" at -314.65,59.06 h25
  text "J6" at -196.54,98.43 h25
  text "L4" at -275.28,19.69 h25
  text "L5" at -235.91,19.69 h25
  text "N4" at -275.28,-59.06 h25
  text "H4" at -275.28,137.8 h25
  text "G13" at 89.06,177.17 h25
  text "J14" at 128.43,98.43 h25
  text "F3" at -314.65,216.54 h25
  text "B1" at -393.39,374.02 h25
  text "H3" at -314.65,137.8 h25
  text "G3" at -314.65,177.17 h25
  text "A1" at -393.39,413.39 h25
  text "K2" at -354.02,59.06 h25
  text "T20" at 364.65,-177.17 h25
  text "L16" at 207.17,19.69 h25
  text "J16" at 207.17,98.43 h25
  text "F20" at 364.65,216.54 h25
  text "G21" at 404.02,177.17 h25
  text "G22" at 443.39,177.17 h25
  text "D21" at 404.02,295.28 h25
  text "E22" at 443.39,255.91 h25
  text "D22" at 443.39,295.28 h25
  text "B21" at 404.02,374.02 h25
  text "A21" at 404.02,413.39 h25
  text "C22" at 443.39,334.65 h25
  text "B22" at 443.39,374.02 h25
  text "Y19" at 325.28,-334.65 h25
  text "R21" at 404.02,-137.8 h25
  text "P21" at 404.02,-98.43 h25
  text "R22" at 443.39,-137.8 h25
  text "P22" at 443.39,-98.43 h25
  text "P5" at -235.91,-98.43 h25
  text "AB5" at -225.91,-413.39 h25
  text "J22" at 443.39,98.43 h25
  text "AA1" at -383.39,-374.02 h25
  text "G20" at 364.65,177.17 h25
  text "T1" at -393.39,-177.17 h25
  text "D1" at -393.39,295.28 h25
  text "E1" at -393.39,255.91 h25
  text "F1" at -393.39,216.54 h25
  text "G1" at -393.39,177.17 h25
  text "E12" at 49.69,255.91 h25
  text "K12" at 49.69,59.06 h25
  text "H12" at 49.69,137.8 h25
  text "M12" at 49.69,-19.69 h25
  text "P12" at 49.69,-98.43 h25
  text "R11" at 10.31,-137.8 h25
  text "G2" at -354.02,177.17 h25
  text "Y1" at -393.39,-334.65 h25
  text "H22" at 443.39,137.8 h25
  text "AB3" at -304.65,-413.39 h25
  text "J1" at -393.39,98.43 h25
  text "K1" at -393.39,59.06 h25
  text "AA3" at -304.65,-374.02 h25
  text "U12" at 49.69,-216.54 h25
  text "AA5" at -225.91,-374.02 h25
  text "C1" at -393.39,334.65 h25
  text "G19" at 325.28,177.17 h25
  text "K20" at 364.65,59.06 h25
  text "H16" at 207.17,137.8 h25
  text "N21" at 404.02,-59.06 h25
  text "L17" at 246.54,19.69 h25
  text "M14" at 128.43,-19.69 h25
  text "T22" at 443.39,-177.17 h25
  text "U19" at 325.28,-216.54 h25
  text "P18" at 285.91,-98.43 h25
  text "V16" at 207.17,-255.91 h25
  text "R15" at 167.8,-137.8 h25
  text "Y20" at 364.65,-334.65 h25
  text "AA17" at 256.54,-374.02 h25
  text "W13" at 89.06,-295.28 h25
  text "F12" at 49.69,216.54 h25
  text "F2" at -354.02,216.54 h25
  text "J13" at 89.06,98.43 h25
  text "H6" at -196.54,137.8 h25
  text "J3" at -314.65,98.43 h25
  text "M4" at -275.28,-19.69 h25
  text "N1" at -393.39,-59.06 h25
  text "T12" at 49.69,-177.17 h25
  text "U8" at -117.8,-216.54 h25
  text "Y10" at -29.06,-334.65 h25
  text "AB14" at 138.43,-413.39 h25
  text "V2" at -354.02,-255.91 h25
  text "N12" at 49.69,-59.06 h25
  text "V4" at -275.28,-255.91 h25
  text "G16" at 207.17,177.17 h25
  text "AB2" at -344.02,-413.39 h25
  text "Y2" at -354.02,-334.65 h25
  text "N13" at 89.06,-59.06 h25
  text "AB1" at -383.39,-413.39 h25
  text "R3" at -314.65,-137.8 h25
  text "W2" at -354.02,-295.28 h25
  text "G15" at 167.8,177.17 h25
  text "N14" at 128.43,-59.06 h25
  text "R16" at 207.17,-137.8 h25
  text "P16" at 207.17,-98.43 h25
  text "R17" at 246.54,-137.8 h25
  text "R19" at 325.28,-137.8 h25
  text "P19" at 325.28,-98.43 h25
  text "L6" at -196.54,19.69 h25
  text "N5" at -235.91,-59.06 h25
  text "P6" at -196.54,-98.43 h25
  text "M5" at -235.91,-19.69 h25
  text "J4" at -275.28,98.43 h25
  text "K4" at -275.28,59.06 h25
  text "L1" at -393.39,19.69 h25
  text "M1" at -393.39,-19.69 h25
  text "N2" at -354.02,-59.06 h25
  text "P2" at -354.02,-98.43 h25
  text "P1" at -393.39,-98.43 h25
  text "R1" at -393.39,-137.8 h25
  text "L15" at 167.8,19.69 h25
  text "K16" at 207.17,59.06 h25
  text "H15" at 167.8,137.8 h25
  text "H17" at 246.54,137.8 h25
  text "L21" at 404.02,19.69 h25
  text "G18" at 285.91,177.17 h25
  text "H19" at 325.28,137.8 h25
  text "G17" at 246.54,177.17 h25
  text "L18" at 285.91,19.69 h25
  text "J21" at 404.02,98.43 h25
  text "L19" at 325.28,19.69 h25
  text "J17" at 246.54,98.43 h25
  text "R5" at -235.91,-137.8 h25
  text "T2" at -354.02,-177.17 h25
  text "AA7" at -147.17,-374.02 h25
  text "V6" at -196.54,-255.91 h25
  text "W3" at -314.65,-295.28 h25
  text "AB4" at -265.28,-413.39 h25
  text "K17" at 246.54,59.06 h25
  text "M21" at 404.02,-19.69 h25
  text "L14" at 128.43,19.69 h25
  text "M15" at 167.8,-19.69 h25
  text "K18" at 285.91,59.06 h25
  text "K19" at 325.28,59.06 h25
  text "L20" at 364.65,19.69 h25
  text "J20" at 364.65,98.43 h25
  text "M20" at 364.65,-19.69 h25
  text "Y18" at 285.91,-334.65 h25
  text "L12" at 49.69,19.69 h25
  text "C21" at 404.02,334.65 h25
  text "A17" at 246.54,413.39 h25
  text "B14" at 128.43,374.02 h25
  text "D18" at 285.91,295.28 h25
  text "E15" at 167.8,255.91 h25
  text "F22" at 443.39,216.54 h25
  text "H8" at -117.8,137.8 h25
  text "J9" at -78.43,98.43 h25
  text "L7" at -157.17,19.69 h25
  text "K8" at -117.8,59.06 h25
  text "N11" at 10.31,-59.06 h25
  text "N7" at -157.17,-59.06 h25
  text "M8" at -117.8,-19.69 h25
  text "T10" at -29.06,-177.17 h25
  text "R9" at -78.43,-137.8 h25
  text "T8" at -117.8,-177.17 h25
  text "P10" at -29.06,-98.43 h25
  text "P8" at -117.8,-98.43 h25
  text "R7" at -157.17,-137.8 h25
  text "H10" at -29.06,137.8 h25
  text "J11" at 10.31,98.43 h25
  text "J7" at -157.17,98.43 h25
  text "L11" at 10.31,19.69 h25
  text "J15" at 167.8,98.43 h25
  text "W1" at -393.39,-295.28 h25
  text "Y4" at -275.28,-334.65 h25
  text "U1" at -393.39,-216.54 h25
  text "U11" at 10.31,-216.54 h25
  text "H18" at 285.91,137.8 h25
  text "T3" at -314.65,-177.17 h25
  text "H2" at -354.02,137.8 h25
  text "V9" at -78.43,-255.91 h25
  text "U2" at -354.02,-216.54 h25
  text "K21" at 404.02,59.06 h25
  text "H20" at 364.65,137.8 h25
  text "J19" at 325.28,98.43 h25
  text "N3" at -314.65,-59.06 h25
  text "K22" at 443.39,59.06 h25
  text "V8" at -117.8,-255.91 h25
  text "P4" at -275.28,-98.43 h25
  text "U3" at -314.65,-216.54 h25
  text "AA4" at -265.28,-374.02 h25
  text "R2" at -354.02,-137.8 h25
  text "M6" at -196.54,-19.69 h25
  text "Y3" at -314.65,-334.65 h25
  text "M9" at -78.43,-19.69 h25
  text "L10" at -29.06,19.69 h25
  text "P20" at 364.65,-98.43 h25
  text "F15" at 167.8,216.54 h25
  text "F21" at 404.02,216.54 h25
  text "W4" at -275.28,-295.28 h25
  text "V3" at -314.65,-255.91 h25
  text "A4" at -275.28,413.39 h25
  text "C5" at -235.91,334.65 h25
  text "A6" at -196.54,413.39 h25
  text "C7" at -157.17,334.65 h25
  text "B4" at -275.28,374.02 h25
  text "D5" at -235.91,295.28 h25
  text "B6" at -196.54,374.02 h25
  text "D7" at -157.17,295.28 h25
  text "E6" at -196.54,255.91 h25
  text "F6" at -196.54,216.54 h25
  text "E10" at -29.06,255.91 h25
  text "F10" at -29.06,216.54 h25
  text "T14" at 128.43,-177.17 h25
  text "W10" at -29.06,-295.28 h25
  text "W11" at 10.31,-295.28 h25
  text "W12" at 49.69,-295.28 h25
  text "W14" at 128.43,-295.28 h25
  text "W15" at 167.8,-295.28 h25
  text "W16" at 207.17,-295.28 h25
  text "Y11" at 10.31,-334.65 h25
  text "Y12" at 49.69,-334.65 h25
  text "Y13" at 89.06,-334.65 h25
  text "Y14" at 128.43,-334.65 h25
  text "T15" at 167.8,-177.17 h25
  text "Y16" at 207.17,-334.65 h25
  text "Y17" at 246.54,-334.65 h25
  text "AA9" at -68.43,-374.02 h25
  text "AA10" at -19.06,-374.02 h25
  text "AA11" at 20.31,-374.02 h25
  text "AA13" at 99.06,-374.02 h25
  text "AA14" at 138.43,-374.02 h25
  text "AA15" at 177.8,-374.02 h25
  text "AA16" at 217.17,-374.02 h25
  text "AB10" at -19.06,-413.39 h25
  text "T16" at 207.17,-177.17 h25
  text "AB11" at 20.31,-413.39 h25
  text "AB12" at 59.69,-413.39 h25
  text "AB13" at 99.06,-413.39 h25
  text "AB15" at 177.8,-413.39 h25
  text "AB16" at 217.17,-413.39 h25
  text "AB17" at 256.54,-413.39 h25
  text "U15" at 167.8,-216.54 h25
  text "U16" at 207.17,-216.54 h25
  text "V10" at -29.06,-255.91 h25
  text "V13" at 89.06,-255.91 h25
  text "V14" at 128.43,-255.91 h25
  text "V15" at 167.8,-255.91 h25
  text "K13" at 89.06,59.06 h25
  text "L13" at 89.06,19.69 h25
  text "K14" at 128.43,59.06 h25
  text "M13" at 89.06,-19.69 h25
  text "D17" at 246.54,295.28 h25
  text "F13" at 89.06,216.54 h25
  text "A14" at 128.43,413.39 h25
  text "D15" at 167.8,295.28 h25
  text "B16" at 207.17,374.02 h25
  text "E13" at 89.06,255.91 h25
  text "D16" at 207.17,295.28 h25
  text "B17" at 246.54,374.02 h25
  text "F18" at 285.91,216.54 h25
  text "A13" at 89.06,413.39 h25
  text "B20" at 364.65,374.02 h25
  text "E14" at 128.43,255.91 h25
  text "E18" at 285.91,255.91 h25
  text "D19" at 325.28,295.28 h25
  text "B18" at 285.91,374.02 h25
  text "E19" at 325.28,255.91 h25
  text "C17" at 246.54,334.65 h25
  text "C14" at 128.43,334.65 h25
  text "C15" at 167.8,334.65 h25
  text "C19" at 325.28,334.65 h25
  text "B13" at 89.06,374.02 h25
  text "AA18" at 295.91,-374.02 h25
  text "T21" at 404.02,-177.17 h25
  text "N17" at 246.54,-59.06 h25
  text "U18" at 285.91,-216.54 h25
  text "A19" at 325.28,413.39 h25
  text "W20" at 364.65,-295.28 h25
  text "W17" at 246.54,-295.28 h25
  text "D14" at 128.43,295.28 h25
  text "AA20" at 374.65,-374.02 h25
  text "W22" at 443.39,-295.28 h25
  text "B15" at 167.8,374.02 h25
  text "R14" at 128.43,-137.8 h25
  text "V18" at 285.91,-255.91 h25
  text "N19" at 325.28,-59.06 h25
  text "P17" at 246.54,-98.43 h25
  text "F14" at 128.43,216.54 h25
  text "V19" at 325.28,-255.91 h25
  text "A16" at 207.17,413.39 h25
  text "AA19" at 335.28,-374.02 h25
  text "E16" at 207.17,255.91 h25
  text "Y22" at 443.39,-334.65 h25
  text "T18" at 285.91,-177.17 h25
  text "AA21" at 414.02,-374.02 h25
  text "AB21" at 414.02,-413.39 h25
  text "E17" at 246.54,255.91 h25
  text "AB20" at 374.65,-413.39 h25
  text "W19" at 325.28,-295.28 h25
  text "R18" at 285.91,-137.8 h25
  text "U21" at 404.02,-216.54 h25
  text "P14" at 128.43,-98.43 h25
  text "V20" at 364.65,-255.91 h25
  text "F16" at 207.17,216.54 h25
  text "W21" at 404.02,-295.28 h25
  text "U22" at 443.39,-216.54 h25
  text "A15" at 167.8,413.39 h25
  text "U17" at 246.54,-216.54 h25
  text "C13" at 89.06,334.65 h25
  text "Y21" at 404.02,-334.65 h25
  text "C18" at 285.91,334.65 h25
  text "AB22" at 453.39,-413.39 h25
  text "A20" at 364.65,413.39 h25
  text "U20" at 364.65,-216.54 h25
  text "V22" at 443.39,-255.91 h25
  text "N18" at 285.91,-59.06 h25
  text "AB18" at 295.91,-413.39 h25
  text "A18" at 285.91,413.39 h25
  text "V17" at 246.54,-255.91 h25
  text "C20" at 364.65,334.65 h25
  text "E21" at 404.02,255.91 h25
  text "F19" at 325.28,216.54 h25
  text "D20" at 364.65,295.28 h25
  text "G11" at 10.31,177.17 h25
  text "P15" at 167.8,-98.43 h25
  text "N15" at 167.8,-59.06 h25
  text "T19" at 325.28,-177.17 h25
  text "AB6" at -186.54,-413.39 h25
  text "T4" at -275.28,-177.17 h25
  text "AB8" at -107.8,-413.39 h25
  text "Y7" at -157.17,-334.65 h25
  text "W6" at -196.54,-295.28 h25
  text "U7" at -157.17,-216.54 h25
  text "AB7" at -147.17,-413.39 h25
  text "V12" at 49.69,-255.91 h25
  text "U13" at 89.06,-216.54 h25
  text "Y6" at -196.54,-334.65 h25
  text "R4" at -275.28,-137.8 h25
  text "W9" at -78.43,-295.28 h25
  text "U5" at -235.91,-216.54 h25
  text "AA6" at -186.54,-374.02 h25
  text "V7" at -157.17,-255.91 h25
  text "R6" at -196.54,-137.8 h25
  text "Y9" at -78.43,-334.65 h25
  text "T5" at -235.91,-177.17 h25
  text "T6" at -196.54,-177.17 h25
  text "W7" at -157.17,-295.28 h25
  text "U6" at -196.54,-216.54 h25
  text "Y8" at -117.8,-334.65 h25
  text "V5" at -235.91,-255.91 h25
  text "AA8" at -107.8,-374.02 h25
  text "K10" at -29.06,59.06 h25
  text "M10" at -29.06,-19.69 h25
  text "K9" at -78.43,59.06 h25
  text "L9" at -78.43,19.69 h25
  text "W5" at -235.91,-295.28 h25
  text "T13" at 89.06,-177.17 h25
  text "R13" at 89.06,-137.8 h25
  text "A22" at 443.39,413.39 h25
  text "B19" at 325.28,374.02 h25
  text "C16" at 207.17,334.65 h25
  text "C12" at 49.69,334.65 h25
  text "B12" at 49.69,374.02 h25
  text "A12" at 49.69,413.39 h25
  text "B8" at -117.8,374.02 h25
  text "A8" at -117.8,413.39 h25
  text "C11" at 10.31,334.65 h25
  text "B10" at -29.06,374.02 h25
  text "A10" at -29.06,413.39 h25
  text "C9" at -78.43,334.65 h25
  text "B9" at -78.43,374.02 h25
  text "B11" at 10.31,374.02 h25
  text "C8" at -117.8,334.65 h25
  text "C10" at -29.06,334.65 h25
  text "A11" at 10.31,413.39 h25
  text "A9" at -78.43,413.39 h25
  text "B5" at -235.91,374.02 h25
  text "B7" at -157.17,374.02 h25
  text "C4" at -275.28,334.65 h25
  text "C6" at -196.54,334.65 h25
  text "A7" at -157.17,413.39 h25
  text "A5" at -235.91,413.39 h25
  text "C3" at -314.65,334.65 h25
  text "B3" at -314.65,374.02 h25
  text "A3" at -314.65,413.39 h25
  text "A2" at -354.02,413.39 h25
  text "E20" at 364.65,255.91 h25
  text "G14" at 128.43,177.17 h25
  text "F17" at 246.54,216.54 h25
  text "G12" at 49.69,177.17 h25
  text "D13" at 89.06,295.28 h25
  text "D12" at 49.69,295.28 h25
  text "D11" at 10.31,295.28 h25
  text "D9" at -78.43,295.28 h25
  text "F8" at -117.8,216.54 h25
  text "D10" at -29.06,295.28 h25
  text "F9" at -78.43,216.54 h25
  text "E8" at -117.8,255.91 h25
  text "G10" at -29.06,177.17 h25
  text "G9" at -78.43,177.17 h25
  text "G8" at -117.8,177.17 h25
  text "F11" at 10.31,216.54 h25
  text "E11" at 10.31,255.91 h25
  text "E9" at -78.43,255.91 h25
  text "D8" at -117.8,295.28 h25
  text "F7" at -157.17,216.54 h25
  text "D6" at -196.54,295.28 h25
  text "G7" at -157.17,177.17 h25
  text "G6" at -196.54,177.17 h25
  text "G5" at -235.91,177.17 h25
  text "F5" at -235.91,216.54 h25
  text "E7" at -157.17,255.91 h25
  text "E5" at -235.91,255.91 h25
  text "E4" at -275.28,255.91 h25
  text "D4" at -275.28,295.28 h25
  text "D3" at -314.65,295.28 h25
  text "H21" at 404.02,137.8 h25
  text "J18" at 285.91,98.43 h25
  text "K15" at 167.8,59.06 h25
  text "J12" at 49.69,98.43 h25
  text "H9" at -78.43,137.8 h25
  text "H11" at 10.31,137.8 h25
  text "J8" at -117.8,98.43 h25
  text "J10" at -29.06,98.43 h25
  text "K11" at 10.31,59.06 h25
  text "H7" at -157.17,137.8 h25
  text "K5" at -235.91,59.06 h25
  text "K7" at -157.17,59.06 h25
  text "H1" at -393.39,137.8 h25
  text "L22" at 443.39,19.69 h25
  text "M19" at 325.28,-19.69 h25
  text "N16" at 207.17,-59.06 h25
  text "N10" at -29.06,-59.06 h25
  text "N9" at -78.43,-59.06 h25
  text "L8" at -117.8,19.69 h25
  text "M11" at 10.31,-19.69 h25
  text "N8" at -117.8,-59.06 h25
  text "M7" at -157.17,-19.69 h25
  text "N6" at -196.54,-59.06 h25
  text "L2" at -354.02,19.69 h25
  text "R20" at 364.65,-137.8 h25
  text "T17" at 246.54,-177.17 h25
  text "U14" at 128.43,-216.54 h25
  text "P13" at 89.06,-98.43 h25
  text "R12" at 49.69,-137.8 h25
  text "U9" at -78.43,-216.54 h25
  text "U10" at -29.06,-216.54 h25
  text "P9" at -78.43,-98.43 h25
  text "P11" at 10.31,-98.43 h25
  text "R8" at -117.8,-137.8 h25
  text "R10" at -29.06,-137.8 h25
  text "T9" at -78.43,-177.17 h25
  text "T11" at 10.31,-177.17 h25
  text "P7" at -157.17,-98.43 h25
  text "T7" at -157.17,-177.17 h25
  text "U4" at -275.28,-216.54 h25
  text "P3" at -314.65,-98.43 h25
  text "AA22" at 453.39,-374.02 h25
  text "V21" at 404.02,-255.91 h25
  text "W18" at 285.91,-295.28 h25
  text "Y15" at 167.8,-334.65 h25
  text "AA12" at 59.69,-374.02 h25
  text "V11" at 10.31,-255.91 h25
  text "W8" at -117.8,-295.28 h25
  text "Y5" at -235.91,-334.65 h25
  text "V1" at -393.39,-255.91 h25
  text "AA2" at -344.02,-374.02 h25
  text "AB19" at 335.28,-413.39 h25
  text "AB9" at -68.43,-413.39 h25
Mechanical 9:
  lines w1: -695,-413.39 -463.39,-413.39 ; -695,-374.02 -463.39,-374.02 ; -645,-428.25 -645,-413.39 ; -645,-361.74 -645,-374.02 ; -590,-407.5 -598,-407.5 -598,-382.5 -590,-382.5 ; -558,-407.5 -550,-407.5 -550,-382.5 -558,-382.5 ; -488.76,-565 -413.39,-565 ; -413.39,-615 -413.39,-463.39 ; -413.39,463.39 -413.39,630 ; -374.02,-615 -374.02,-463.39 ; -320,-577.5 -328,-577.5 -328,-552.5 -320,-552.5 ; -288,-577.5 -280,-577.5 -280,-552.5 -288,-552.5 ; -261.26,-565 -374.02,-565 ; -130.76,580 -413.39,580 ; 60,567.5 52,567.5 52,592.5 60,592.5 ; 114,567.5 122,567.5 122,592.5 114,592.5 ; 140.74,580 413.39,580 ; 413.39,463.39 413.39,630 ; 463.39,-413.39 710,-413.39 ; 463.39,413.39 710,413.39 ; 660,-63.25 660,-413.39 ; 660,3.26 660,413.39 ; 715,-42.5 707,-42.5 707,-17.5 715,-17.5 ; 769,-42.5 777,-42.5 777,-17.5 769,-17.5 ; -645,-413.39 -620,-463.39 -670,-463.39 -645,-413.39 ; -645,-374.02 -670,-324.02 -620,-324.02 -645,-374.02 ; -413.39,-565 -463.39,-590 -463.39,-540 -413.39,-565 ; -413.39,580 -363.39,605 -363.39,555 -413.39,580 ; -374.02,-565 -324.02,-540 -324.02,-590 -374.02,-565 ; 413.39,580 363.39,555 363.39,605 413.39,580 ; 660,-413.39 635,-363.39 685,-363.39 660,-413.39 ; 660,413.39 685,363.39 635,363.39 660,413.39
  text "21" at 68,567.5 h25
  text "826.78" at -110,567.5 h25
  text "21" at 723,-42.5 h25
  text "826.78" at 545,-42.5 h25
  text "1" at -582,-407.5 h25
  text "39.37" at -738,-407.5 h25
  text "1" at -312,-577.5 h25
  text "39.37" at -468,-577.5 h25
Mechanical 12:
  lines w1: -452.76,-452.76 -452.76,452.76 452.76,452.76 452.76,-452.76 -452.76,-452.76

## FPC100C047 [mm] "FPC100C047"
pads (17):
  rect 0.6x2 smd: 1(-7,-2.64) 2(-6,-2.64) 3(-5,-2.64) 4(-4,-2.64) 5(-3,-2.64) 6(-2,-2.64) 7(-1,-2.64) 8(0,-2.64) 9(1,-2.64) 10(2,-2.64) 11(3,-2.64) 12(4,-2.64) 13(5,-2.64) 14(6,-2.64) 15(7,-2.64)
  rect 2.6x2.1 smd: 16(-9.25,-0.39) 17(9.25,-0.39)
Top Overlay:
  lines w0.152: -7.517,-1.71 -11,-1.71 -11,3.64 11,3.64 11,-1.71 7.517,-1.71
  text "15" at 6.479,-4.648 h0.64
  text "1" at -7.212,-4.521 h0.64
  text ".Designator" at -8.401,-4.311 h0.64
Mechanical 8:
  text "1" at -7,-2.894 h0.64
  text "16" at -9.25,-0.898 h0.64
  text "4" at -4,-2.894 h0.64
  text "7" at -1,-2.894 h0.64
  text "10" at 2,-3.148 h0.64
  text "17" at 9.25,-0.898 h0.64
  text "15" at 7,-3.148 h0.64
  text "8" at 0,-2.894 h0.64
  text "9" at 1,-2.894 h0.64
  text "6" at -2,-2.894 h0.64
  text "13" at 5,-3.148 h0.64
  text "14" at 6,-3.148 h0.64
  text "12" at 4,-3.148 h0.64
  text "11" at 3,-3.148 h0.64
  text "2" at -6,-2.894 h0.64
  text "3" at -5,-2.894 h0.64
  text "5" at -3,-2.894 h0.64
Mechanical 9:
  lines w0.025: -9.517,-5.071 -7,-5.071 ; -7,-7.738 -7,-3.91 -7,-6.341 ; -6,-6.341 -6,-3.91 ; -5.231,-5.389 -5.434,-5.389 -5.434,-4.754 -5.231,-4.754 ; -4.418,-5.389 -4.215,-5.389 -4.215,-4.754 -4.418,-4.754 ; -3.739,-5.071 -6,-5.071 ; -3.218,-6.468 -7,-6.468 ; 1.627,-6.786 1.424,-6.786 1.424,-6.151 1.627,-6.151 ; 2.999,-6.786 3.202,-6.786 3.202,-6.151 2.999,-6.151 ; 3.678,-6.468 7,-6.468 ; 3.869,4.708 7,4.708 ; 7,-7.738 7,-3.91 ; 7,-1.37 7,5.978 ; 8.155,4.39 7.952,4.39 7.952,5.025 8.155,5.025 ; 8.27,-2.64 15.978,-2.64 ; 9.25,0.88 9.25,5.978 ; 10.52,-0.39 15.978,-0.39 ; 10.644,4.39 10.847,4.39 10.847,5.025 10.644,5.025 ; 11.324,4.708 9.25,4.708 ; 14.708,-2.487 14.708,-2.64 ; 14.708,-0.798 14.708,-0.39 ; 15.267,-1.96 15.064,-1.96 15.064,-1.325 15.267,-1.325 ; 17.756,-1.96 17.959,-1.96 17.959,-1.325 17.756,-1.325 ; -7,-6.468 -5.73,-7.103 -5.73,-5.833 -7,-6.468 ; -7,-5.071 -8.27,-4.436 -8.27,-5.706 -7,-5.071 ; -6,-5.071 -4.73,-5.706 -4.73,-4.436 -6,-5.071 ; 7,-6.468 5.73,-5.833 5.73,-7.103 7,-6.468 ; 7,4.708 5.73,5.343 5.73,4.073 7,4.708 ; 9.25,4.708 10.52,4.073 10.52,5.343 9.25,4.708 ; 14.708,-2.64 14.073,-3.91 15.343,-3.91 14.708,-2.64 ; 14.708,-0.39 15.343,0.88 14.073,0.88 14.708,-0.39
  text "2.25" at 8.358,4.39 h0.64
  text "88.58" at 4.396,4.39 h0.64
  text "14" at 1.83,-6.786 h0.64
  text "551.19" at -2.691,-6.786 h0.64
  text "2.25" at 15.47,-1.96 h0.64
  text "88.58" at 11.508,-1.96 h0.64
  text "1" at -5.028,-5.389 h0.64
  text "39.37" at -8.99,-5.389 h0.64
Mechanical 12:
  region: -11.19,3.83 11.191,3.83 11.191,-1.901 7.491,-1.901 7.491,-3.831 -7.49,-3.831 -7.49,-1.901 -11.19,-1.901
3D body: height 3.81, standoff 0, extent -11.19,-3.831 11.191,3.83

## FUSE_1812 [mil] "FUSE_1812"
pads (2):
  rect 72x128 smd: 1(-76,0) 2(76,0)
Top Overlay:
  lines w6: -121,-73 -121,73 121,73 121,-73 -121,-73
Mechanical 8:
  text "1" at -86,0 h25
  text "2" at 66,0 h25
Mechanical 9:
  lines w1: -137.75,-110 -76,-110 ; -76,-160 -76,-50 ; 53,-122.5 45,-122.5 45,-97.5 53,-97.5 ; 76,-160 76,-50 ; 151,-122.5 159,-122.5 159,-97.5 151,-97.5 ; 177.75,-110 76,-110 ; -76,-110 -26,-135 -26,-85 -76,-110 ; 76,-110 26,-85 26,-135 76,-110
  text "152.00" at -117,-122.5 h25
  text "3.86" at 61,-122.5 h25
Mechanical 12:
  lines w1: -121,-73 -121,73 121,73 121,-73 -121,-73
Mechanical 13:
  text ".Designator" at 0,0 h25

## GE_RJ45 [mil] "GE_RJ45"
pads (18):
  round 70.87 hole 51.18: 11(180.41,-260.83) 12(180.41,-160.83) 13(180.41,160.82) 14(180.41,260.82)
  round 98 hole 70.87: 15(-132.58,-305.12) 16(-132.58,305.11)
  round 129.92 hole 129.92: 17(-12.5,-225.99) 18(-12.5,225.98)
  round 60 hole 40: P1(-362.5,-225.01) P2(-262.5,-175.01) P3(-362.5,-125.01) P4(-262.5,-75.01) P5(-362.5,-25.01) P6(-262.5,24.99) P7(-362.5,74.99) P8(-262.5,124.99) P9(-362.5,174.99) P10(-262.5,224.99)
Top Overlay:
  lines w10: -412.5,-314.01 412.5,-314.01 412.5,313.99 -412.5,313.99 -412.5,-314.01
  text ".Designator" at -430.81,284.48 h25
Mechanical 8:
  text "15" at -112.58,-305.12 h25
  text "P10" at -232.5,224.99 h25
  text "16" at -112.58,305.11 h25
  text "18" at 7.5,225.98 h25
  text "17" at 7.5,-225.99 h25
  text "P7" at -342.5,74.99 h25
  text "P5" at -342.5,-25.01 h25
  text "P4" at -242.5,-75.01 h25
  text "P2" at -242.5,-175.01 h25
  text "P3" at -342.5,-125.01 h25
  text "P9" at -342.5,174.99 h25
  text "P8" at -242.5,124.99 h25
  text "P1" at -342.5,-225.01 h25
  text "P6" at -242.5,24.99 h25
  text "14" at 200.41,260.82 h25
  text "11" at 200.41,-260.83 h25
  text "12" at 200.41,-160.83 h25
  text "13" at 200.41,160.82 h25
Mechanical 12:
  lines w1: -412.5,-354.12 412.5,-354.12 412.5,354.12 -412.5,354.12 -412.5,-354.12
Mechanical 13:
  lines w1: -412.5,-354.12 412.5,-354.12 412.5,354.12 -412.5,354.12 -412.5,-354.12